# EAGLE library part IC_SN74LVC2G241_1_U_8_DCU_SN74L (library BeagleBone_Black_egl)
IC_SN74LVC2G241_1_U_8_DCU_SN74L
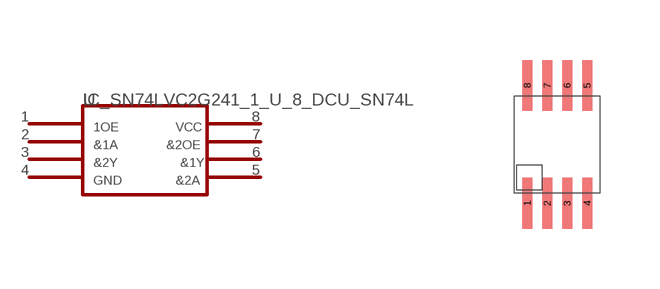
[diagram p9: symbol with the pads of U_8_DCU; footprint U_8_DCU]

Designator prefix -

## IC_SN74LVC2G241_1_U_8_DCU_SN74L  [U_8_DCU]
1  3
2  1
3  7
4  5
5  6
6  8
7  2
8  4

## Footprint U_8_DCU (pad centres in mm)
smd 0.254 x 1.27: 1 -0.749,-1.473; 2 -0.249,-1.473; 3 0.249,-1.473; 4 0.749,-1.473; 5 0.749,1.473; 6 0.249,1.473; 7 -0.249,1.473; 8 -0.749,1.473